# EAGLE library part 796644-6 (library con-amp-termi-block)
TERMI-BLOCK, 5MM
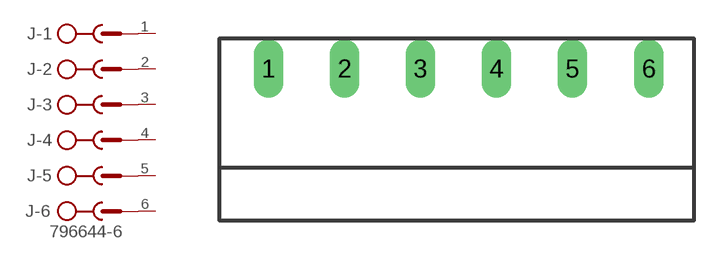
[diagram p0: symbol with the pads of 796644-6; footprint 796644-6]

Designator prefix J; gates -1=SK -2=SK -3=SK -4=SK -5=SK -6=SK+V

## 796644-6  [796644-6]
1  -1:SK  pas
2  -2:SK  pas
3  -3:SK  pas
4  -4:SK  pas
5  -5:SK  pas
6  -6:SK  pas

## Footprint 796644-6 (pad centres in mm)
Connector Right Angle pitch 5 mm
drill 1.27 pad 1.93 long: 1 -12.5,0; 2 -7.5,0; 3 -2.5,0; 4 2.5,0; 5 7.5,0; 6 12.5,0